# Altium footprint library CH395L.PcbLib: 1 footprints
Each footprint in its own frame and in the unit in brackets; x right, y up, seen from the top. Pads: shape width x height; smd on the part's side, far side on the other; paste and mask are expansions set on the pad; w line width, h text height; cw(c..) or ccw(c..) is an arc to the next point about the centre after c.
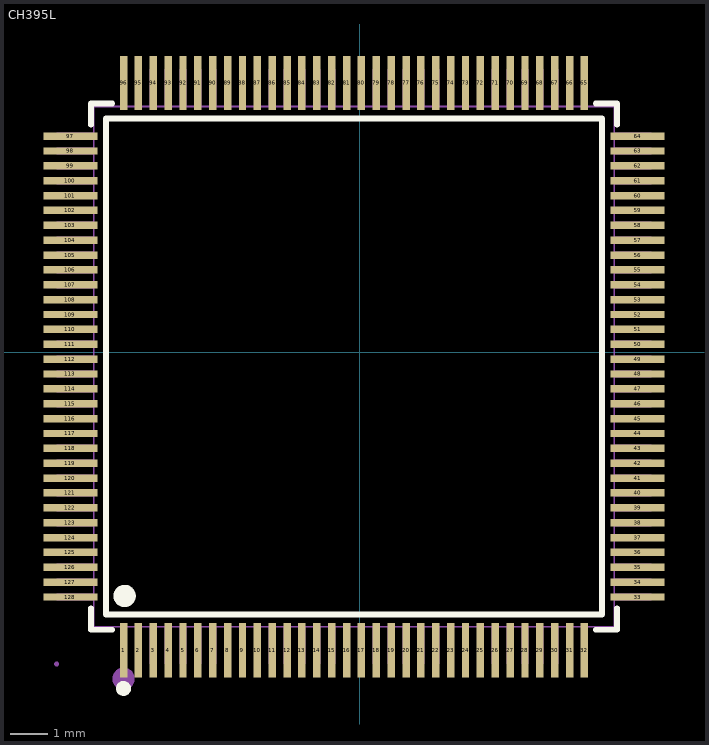
[diagram p0: the footprint, top view; thin cyan lines are the x and y axes]

## CH395L [mm]
pads (128):
  rect 0.2x1.46 smd: 1(-6.349,-8.014) 2(-5.949,-8.014) 3(-5.549,-8.014) 4(-5.149,-8.014) 5(-4.749,-8.014) 6(-4.349,-8.014) 7(-3.949,-8.014) 8(-3.549,-8.014) 9(-3.149,-8.014) 10(-2.749,-8.014) 11(-2.349,-8.014) 12(-1.949,-8.014) 13(-1.549,-8.014) 14(-1.149,-8.014) 15(-0.749,-8.014) 16(-0.349,-8.014) 17(0.051,-8.014) 18(0.451,-8.014) 19(0.851,-8.014) 20(1.251,-8.014) 21(1.651,-8.014) 22(2.051,-8.014) 23(2.451,-8.014) 24(2.851,-8.014) 25(3.251,-8.014) 26(3.651,-8.014) 27(4.051,-8.014) 28(4.451,-8.014) 29(4.851,-8.014) 30(5.251,-8.014) 31(5.651,-8.014) 32(6.051,-8.014) 65(6.051,7.246) 66(5.651,7.246) 67(5.251,7.246) 68(4.851,7.246) 69(4.451,7.246) 70(4.051,7.246) 71(3.651,7.246) 72(3.251,7.246) 73(2.851,7.246) 74(2.451,7.246) 75(2.051,7.246) 76(1.651,7.246) 77(1.251,7.246) 78(0.851,7.246) 79(0.451,7.246) 80(0.051,7.246) 81(-0.349,7.246) 82(-0.749,7.246) 83(-1.149,7.246) 84(-1.549,7.246) 85(-1.949,7.246) 86(-2.349,7.246) 87(-2.749,7.246) 88(-3.149,7.246) 89(-3.549,7.246) 90(-3.949,7.246) 91(-4.349,7.246) 92(-4.749,7.246) 93(-5.149,7.246) 94(-5.549,7.246) 95(-5.949,7.246) 96(-6.349,7.246)
  rect 1.46x0.2 smd: 33(7.481,-6.584) 34(7.481,-6.184) 35(7.481,-5.784) 36(7.481,-5.384) 37(7.481,-4.984) 38(7.481,-4.584) 39(7.481,-4.184) 40(7.481,-3.784) 41(7.481,-3.384) 42(7.481,-2.984) 43(7.481,-2.584) 44(7.481,-2.184) 45(7.481,-1.784) 46(7.481,-1.384) 47(7.481,-0.984) 48(7.481,-0.584) 49(7.481,-0.184) 50(7.481,0.216) 51(7.481,0.616) 52(7.481,1.016) 53(7.481,1.416) 54(7.481,1.816) 55(7.481,2.216) 56(7.481,2.616) 57(7.481,3.016) 58(7.481,3.416) 59(7.481,3.816) 60(7.481,4.216) 61(7.481,4.616) 62(7.481,5.016) 63(7.481,5.416) 64(7.481,5.816) 97(-7.779,5.816) 98(-7.779,5.416) 99(-7.779,5.016) 100(-7.779,4.616) 101(-7.779,4.216) 102(-7.779,3.816) 103(-7.779,3.416) 104(-7.779,3.016) 105(-7.779,2.616) 106(-7.779,2.216) 107(-7.779,1.816) 108(-7.779,1.416) 109(-7.779,1.016) 110(-7.779,0.616) 111(-7.779,0.216) 112(-7.779,-0.184) 113(-7.779,-0.584) 114(-7.779,-0.984) 115(-7.779,-1.384) 116(-7.779,-1.784) 117(-7.779,-2.184) 118(-7.779,-2.584) 119(-7.779,-2.984) 120(-7.779,-3.384) 121(-7.779,-3.784) 122(-7.779,-4.184) 123(-7.779,-4.584) 124(-7.779,-4.984) 125(-7.779,-5.384) 126(-7.779,-5.784) 127(-7.779,-6.184) 128(-7.779,-6.584)
Top Overlay:
  circle w0.3: c-6.321,-6.555 r0.15
  circle w0.2: c-6.349,-9.044 r0.1
  lines w0.152: -7.225,-6.886 -7.225,-7.46 -6.652,-7.46 ; -7.225,6.119 -7.225,6.692 -6.652,6.692 ; 6.353,-7.46 6.927,-7.46 6.927,-6.886 ; 6.353,6.692 6.927,6.692 6.927,6.119 ; -6.821,-7.055 6.522,-7.055 6.522,6.288 -6.821,6.288 -6.821,-7.055
Mechanical 6:
  circle w0.3: c-6.349,-8.784 r0.15
Mechanical 15:
  drawing of 261 lines, arcs and shapes, not listed